# Altium schematic symbol library IND,10uH,680mA,Wirewound,1007.Schlib: 1 symbol
Pins are listed as number, name and electrical type; pins without a type are passive.

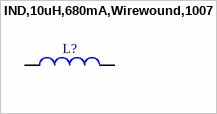
[diagram p0: symbol IND,10uH,680mA,Wirewound,1007]

## IND,10uH,680mA,Wirewound,1007
designator L?
pins: 1, 2